# Altium schematic symbol library robot-basketball-basket-counter.SchLib: 14 symbols
Pins are listed as number, name and electrical type; pins without a type are passive.

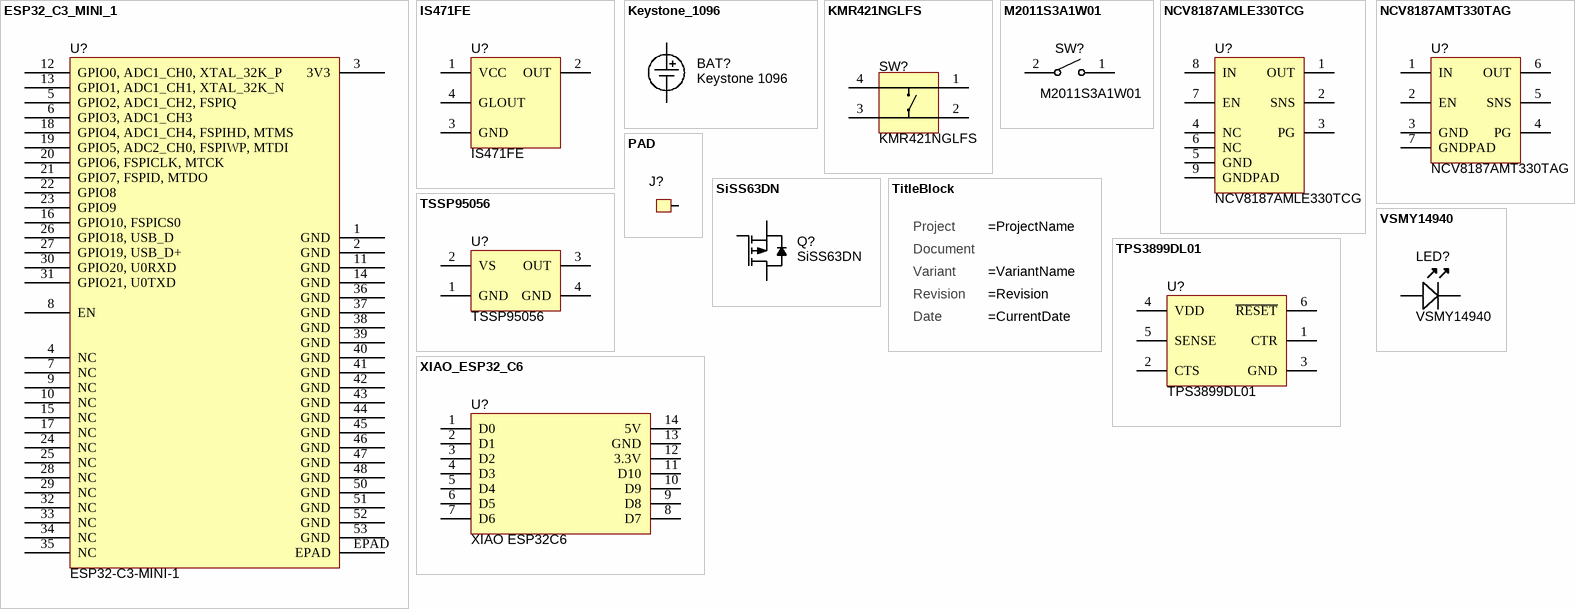
[diagram p0: symbols ESP32_C3_MINI_1 to XIAO_ESP32_C6]

## ESP32_C3_MINI_1
designator U?, comment ESP32-C3-MINI-1
footprint ESP32_C3_MINI_1
pins: 1 GND, 2 GND, 3 3V3, 4 NC, 5 GPIO2, ADC1_CH2, FSPIQ, 6 GPIO3, ADC1_CH3 , 7 NC, 8 EN, 9 NC, 10 NC, 11 GND, 12 GPIO0, ADC1_CH0, XTAL_32K_P , 13 GPIO1, ADC1_CH1, XTAL_32K_N, 14 GND, 15 NC, 16 GPIO10, FSPICS0, 17 NC, 18 GPIO4, ADC1_CH4, FSPIHD, MTMS, 19 GPIO5, ADC2_CH0, FSPIWP, MTDI , 20 GPIO6, FSPICLK, MTCK, 21 GPIO7, FSPID, MTDO, 22 GPIO8 , 23 GPIO9, 24 NC, 25 NC, 26 GPIO18, USB_D, 27 GPIO19, USB_D+, 28 NC, 29 NC, 30 GPIO20, U0RXD, 31 GPIO21, U0TXD, 32 NC, 33 NC, 34 NC, 35 NC, 36 GND, 37 GND, 38 GND, 39 GND, 40 GND, 41 GND, 42 GND, 43 GND, 44 GND, 45 GND, 46 GND, 47 GND, 48 GND, 50 GND, 51 GND, 52 GND, 53 GND, EPAD

## IS471FE
designator U?
footprint IS471FE
pins: 1 VCC, 2 OUT, 3 GND, 4 GLOUT

## Keystone_1096
designator BAT?, comment Keystone 1096
footprint Keystone_PN1096
pins: minus, plus

## KMR421NGLFS
designator SW?
SWITCH TACTILE SPST-NO 0.05A 32V; Manufacturer: C&K Components; Contact Resistance: 100mΩ; Operating Force: 2N; Current Rating: 50mA; Electromechanical Life: 100000Cycles; ComponentLink2URL: https://www.ckswitches.com/media/1480/kmr4.pdf; Automotive: No; Device Class L2: Switches; Temperature Range Low: -40°C; Temperature: -40°C to +85°C; Digikey Description: SWITCH TACTILE SPST-NO 0.05A 32V; Category: Switch; ComponentLink2Description: Datasheet; Octopart: https://octopart.com/kmr421nglfs-c%26k+components-7226706; Mouser Description: Switch Tactile N.O. SPST Round Button Gull Wing 0.05A 32VDC 1VA 2N SMD Automotive T/R; Package: KMR421NG LFS; Manufacturer Part Number: KMR421NG LFS; Lead Free: Yes; Throw Configuration: SPST-NO; Height: 2.5mm; Device Class L3: Tactile Switches; Mount: Surface Mount; Device Class L1: Electromechanical; RoHS: TRUE; Temperature Range High: +85°C; Voltage Rating Dc: 32V
footprint KMR4_NO_GROUND
pins: 1, 2, 3, 4

## M2011S3A1W01
designator SW?
footprint M2011S3A1W01
pins: 1, 2

## NCV8187AMLE330TCG
designator U?
footprint SON65P300X100_HS-9N (SON, 8-Leads, Body 3,00x3,00mm, Pitch 0,65mm, Thermal Pad 2,40x1,49mm, IPC Medium Density)
pins: 1 OUT, 2 SNS, 3 PG, 4 NC, 5 GND, 6 NC, 7 EN, 8 IN, 9 GNDPAD

## NCV8187AMT330TAG
designator U?
footprint SON65P200X80_HS-7N (SON, 6-Leads, Body 2,00x2,00mm, Pitch 0,65mm, Thermal Pad 1,60x0,69mm, IPC Medium Density)
pins: 1 IN, 2 EN, 3 GND, 4 PG, 5 SNS, 6 OUT, 7 GNDPAD

## PAD
designator J?  (value not drawn)  (no BOM)
footprint PAD_2.0x1.0
footprint PAD_3.0x2.0
pins: 1

## SiSS63DN
designator Q?
footprint Vishay_PowerPAK_1212-8S
pins: D, G, S

## TitleBlock
designator TitleBlock  (value not drawn)  (graphical)
text: Project; Document; Variant; Revision; Date

## TPS3899DL01
designator U?
footprint TI_DSE0006A_WSON (SON, 6-Leads, Body 1,50x1,50mm, Pitch 0,50mm, IPC Medium Density)
pins: 1 CTR, 2 CTS, 3 GND, 4 VDD, 5 SENSE, 6 ~{RESET}

## TSSP95056
designator U?
footprint VISHAY_HEIMDALL_VERTICAL
pins: 1 GND, 2 VS, 3 OUT, 4 GND

## VSMY14940
designator LED?
footprint VSMY14940
pins: A, K

## XIAO_ESP32_C6
designator U?, comment XIAO ESP32C6
footprint XIAO_ESP32_C6
pins: 1 D0, 2 D1, 3 D2, 4 D3, 5 D4, 6 D5, 7 D6, 8 D7, 9 D8, 10 D9, 11 D10, 12 3.3V, 13 GND, 14 5V